# EAGLE library part UC2-3NJ (library UC2-3NJ)
KEMET, UC2, Relays, Signal, 3 V, 220 V, 250 VAC, 1 A, 100 mOhms, 1 GOhms, 10.6mm, 6.5mm, 5.3mm Source: Datasheet <https://content.kemet.com/datasheets/KEM_R7005_UC2_UD2.pdf>
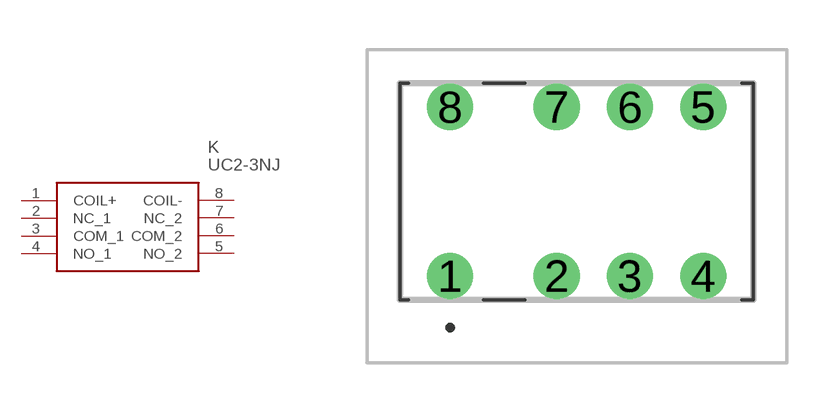
[diagram p0: symbol with the pads of UC23NJ; footprint UC23NJ]

Designator prefix K

## UC2-3NJ (Description: KEMET, UC2, Relays, Signal, 3 V, 220 V, 250 VAC, 1 A, 100 mOhms, 1 GOhms, 10.6mm, 6.5mm, 5.3mm; Height: 5.3mm; Manufacturer_Name: KEMET; Manufacturer_Part_Number: UC2-3NJ; Mouser_Part_Number: 551-UC2-3NJ; Mouser_Price-Stock: https://www.mouser.co.uk/ProductDetail/KEMET/UC2-3NJ?qs=rjnFDYRVT0pG6uPYp31kIg%3D%3D)  [UC23NJ]
1  COIL+
2  NC_1
3  COM_1
4  NO_1
5  NO_2
6  COM_2
7  NC_2
8  COIL-

## Footprint UC23NJ (pad centres in mm)
UC2-3NJ-2
drill 0.85 pad 1.381: 1 0,0; 2 3.2,0; 3 5.4,0; 4 7.6,0; 5 7.6,5.08; 6 5.4,5.08; 7 3.2,5.08; 8 0,5.08